# EAGLE library part VOCORE2-THROUGH-HOLE (library pager)
Wifi router on a module, based on MT7628
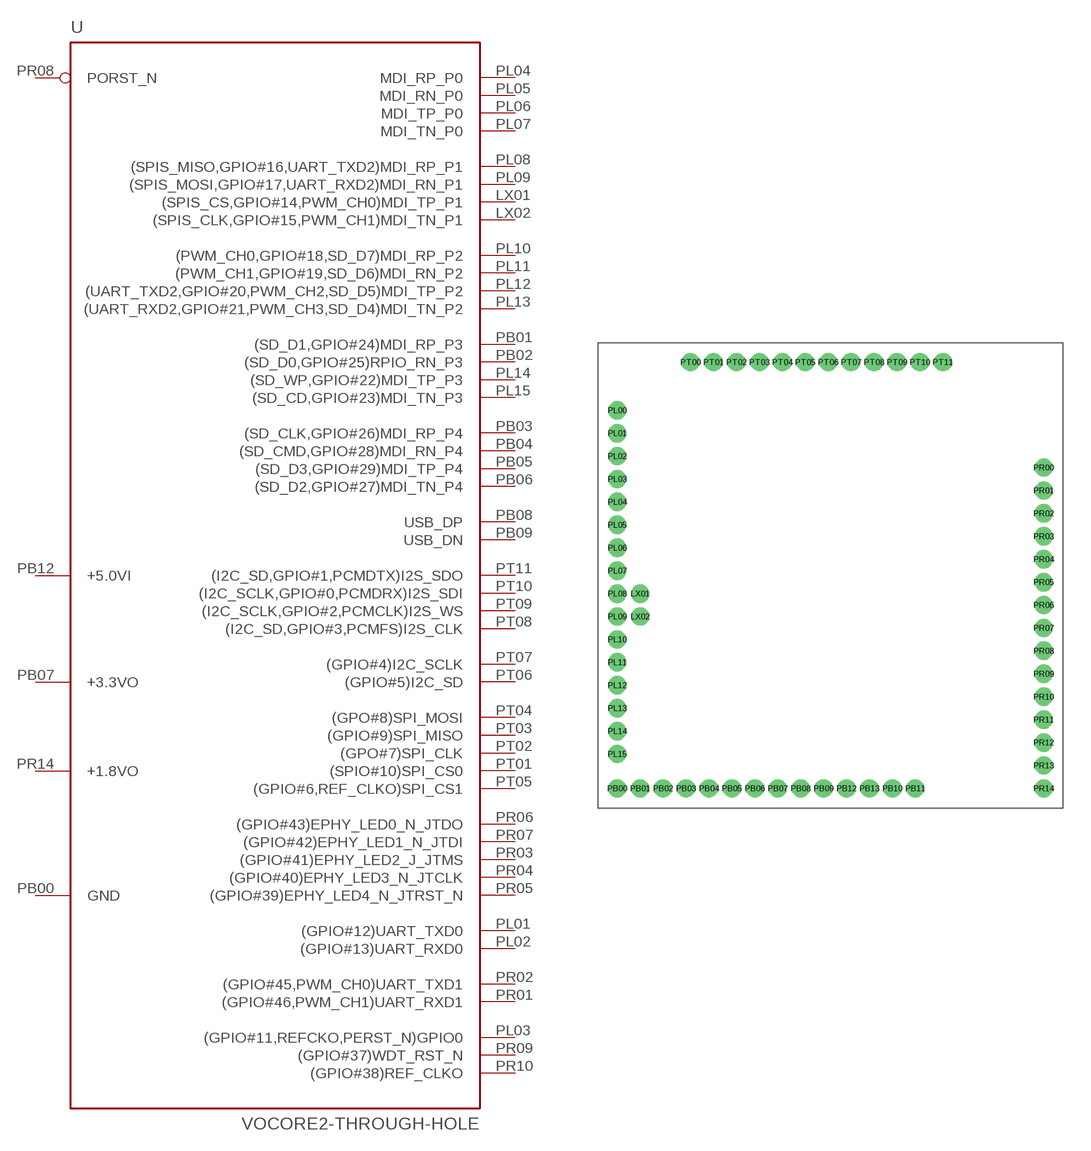
[diagram p2: symbol with the pads of VOCORE2-THROUGH-HOLE; footprint VOCORE2-THROUGH-HOLE]

Designator prefix U

## VOCORE2-THROUGH-HOLETHROUGH-HOLE  [VOCORE2-THROUGH-HOLE]
LX01  (SPIS_CS,GPIO#14,PWM_CH0)MDI_TP_P1
LX02  (SPIS_CLK,GPIO#15,PWM_CH1)MDI_TN_P1
PB00  GND  pwr
PB01  (SD_D1,GPIO#24)MDI_RP_P3
PB02  (SD_D0,GPIO#25)RPIO_RN_P3
PB03  (SD_CLK,GPIO#26)MDI_RP_P4
PB04  (SD_CMD,GPIO#28)MDI_RN_P4
PB05  (SD_D3,GPIO#29)MDI_TP_P4
PB06  (SD_D2,GPIO#27)MDI_TN_P4
PB07  +3.3VO  pwr
PB08  USB_DP
PB09  USB_DN
PB12  +5.0VI  pwr
PL01  (GPIO#12)UART_TXD0
PL02  (GPIO#13)UART_RXD0
PL03  (GPIO#11,REFCKO,PERST_N)GPIO0
PL04  MDI_RP_P0  in
PL05  MDI_RN_P0  in
PL06  MDI_TP_P0  out
PL07  MDI_TN_P0  out
PL08  (SPIS_MISO,GPIO#16,UART_TXD2)MDI_RP_P1
PL09  (SPIS_MOSI,GPIO#17,UART_RXD2)MDI_RN_P1
PL10  (PWM_CH0,GPIO#18,SD_D7)MDI_RP_P2
PL11  (PWM_CH1,GPIO#19,SD_D6)MDI_RN_P2
PL12  (UART_TXD2,GPIO#20,PWM_CH2,SD_D5)MDI_TP_P2
PL13  (UART_RXD2,GPIO#21,PWM_CH3,SD_D4)MDI_TN_P2
PL14  (SD_WP,GPIO#22)MDI_TP_P3
PL15  (SD_CD,GPIO#23)MDI_TN_P3
PR01  (GPIO#46,PWM_CH1)UART_RXD1
PR02  (GPIO#45,PWM_CH0)UART_TXD1
PR03  (GPIO#41)EPHY_LED2_J_JTMS
PR04  (GPIO#40)EPHY_LED3_N_JTCLK
PR05  (GPIO#39)EPHY_LED4_N_JTRST_N
PR06  (GPIO#43)EPHY_LED0_N_JTDO
PR07  (GPIO#42)EPHY_LED1_N_JTDI
PR08  PORST_N  in
PR09  (GPIO#37)WDT_RST_N
PR10  (GPIO#38)REF_CLKO
PR14  +1.8VO  sup
PT01  (SPIO#10)SPI_CS0
PT02  (GPO#7)SPI_CLK  out
PT03  (GPIO#9)SPI_MISO
PT04  (GPO#8)SPI_MOSI  out
PT05  (GPIO#6,REF_CLKO)SPI_CS1
PT06  (GPIO#5)I2C_SD
PT07  (GPIO#4)I2C_SCLK
PT08  (I2C_SD,GPIO#3,PCMFS)I2S_CLK
PT09  (I2C_SCLK,GPIO#2,PCMCLK)I2S_WS
PT10  (I2C_SCLK,GPIO#0,PCMDRX)I2S_SDI
PT11  (I2C_SD,GPIO#1,PCMDTX)I2S_SDO

## Footprint VOCORE2-THROUGH-HOLE (pad centres in mm)
drill 0.508 pad 1.016: LX01 -10.541,-1.016; LX02 -10.541,-2.286; PB00 -11.811,-11.811; PB01 -10.541,-11.811; PB02 -9.271,-11.811; PB03 -8.001,-11.811; PB04 -6.731,-11.811; PB05 -5.461,-11.811; PB06 -4.191,-11.811; PB07 -2.921,-11.811; PB08 -1.651,-11.811; PB09 -0.381,-11.811; PB10 3.429,-11.811; PB11 4.699,-11.811; PB12 0.889,-11.811; PB13 2.159,-11.811; PL00 -11.811,9.144; PL01 -11.811,7.874; PL02 -11.811,6.604; PL03 -11.811,5.334; PL04 -11.811,4.064; PL05 -11.811,2.794; PL06 -11.811,1.524; PL07 -11.811,0.254; PL08 -11.811,-1.016; PL09 -11.811,-2.286; PL10 -11.811,-3.556; PL11 -11.811,-4.826; PL12 -11.811,-6.096; PL13 -11.811,-7.366; PL14 -11.811,-8.636; PL15 -11.811,-9.906; PR00 11.811,5.969; PR01 11.811,4.699; PR02 11.811,3.429; PR03 11.811,2.159; PR04 11.811,0.889; PR05 11.811,-0.381; PR06 11.811,-1.651; PR07 11.811,-2.921; PR08 11.811,-4.191; PR09 11.811,-5.461; PR10 11.811,-6.731; PR11 11.811,-8.001; PR12 11.811,-9.271; PR13 11.811,-10.541; PR14 11.811,-11.811; PT00 -7.747,11.811; PT01 -6.477,11.811; PT02 -5.207,11.811; PT03 -3.937,11.811; PT04 -2.667,11.811; PT05 -1.397,11.811; PT06 -0.127,11.811; PT07 1.143,11.811; PT08 2.413,11.811; PT09 3.683,11.811; PT10 4.953,11.811; PT11 6.223,11.811